# Altium integrated library C1608C0G1H220J080AA.IntLib: 1 symbol
Pins are listed as number, name and electrical type; pins without a type are passive.

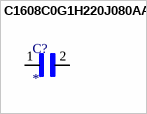
[diagram p0: symbol C1608C0G1H220J080AA]

## C1608C0G1H220J080AA
designator C?
22pF Â±5% 50V Ceramic Capacitor C0G, NP0 0603 (1608 Metric); MF: TDK; MP: C1608C0G1H220J080AA; Value: *; Price: None; Package: 1608 TDK; Availability: In Stock; Check_prices: https://www.snapeda.com/parts/C1608C0G1H220J080AA/TDK/view-part/?ref=eda; Purchase-URL: https://pricing.snapeda.com/search/part/C1608C0G1H220J080AA/?ref=eda; SnapEDA_Link: https://www.snapeda.com/parts/C1608C0G1H220J080AA/TDK/view-part/?ref=snap
footprint CAPC1608X90N
pins: 1, 2